# Altium schematic symbol library 0805X7R106KT1AT.SchLib: 1 symbol
Pins are listed as number, name and electrical type; pins without a type are passive.

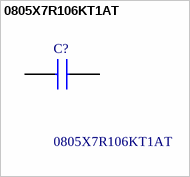
[diagram p0: symbol 0805X7R106KT1AT]

## 0805X7R106KT1AT
designator C?
Multilayer Ceramic Capacitors MLCC - SMD/SMT CAP-RESALE; Manufacturer_Name: Kyocera AVX; Geometry.Height: 1.13mm; Mouser Part Number: 581-0805X7R106KT1AT; Mouser Price/Stock: https://www.mouser.co.uk/ProductDetail/KYOCERA-AVX/0805X7R106KT1AT?qs=XAiT9M5g4x%252Bo4s7i6ql7Og%3D%3D; Manufacturer_Part_Number: 0805X7R106KT1AT; Datasheet Link: https://datasheets.kyocera-avx.com/Accu-P.pdf
footprint CAPC2013X113N
pins: 1, 2